# Altium schematic symbol library AP63205WU-7.SchLib: 1 symbol
Pins are listed as number, name and electrical type; pins without a type are passive.

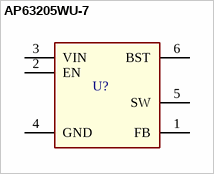
[diagram p0: symbol AP63205WU-7]

## AP63205WU-7
designator U?
SYNCHRONOUS BUCK WITH ENHANCED EMI REDUCTION
footprint SOT23-6_custom
pins: 1 FB, 2 EN, 3 VIN, 4 GND, 5 SW, 6 BST